# Altium footprint library X2Y_0805.PcbLib: 1 footprints
Each footprint in its own frame and in the unit in brackets; x right, y up, seen from the top. Pads: shape width x height; smd on the part's side, far side on the other; paste and mask are expansions set on the pad; w line width, h text height; cw(c..) or ccw(c..) is an arc to the next point about the centre after c.
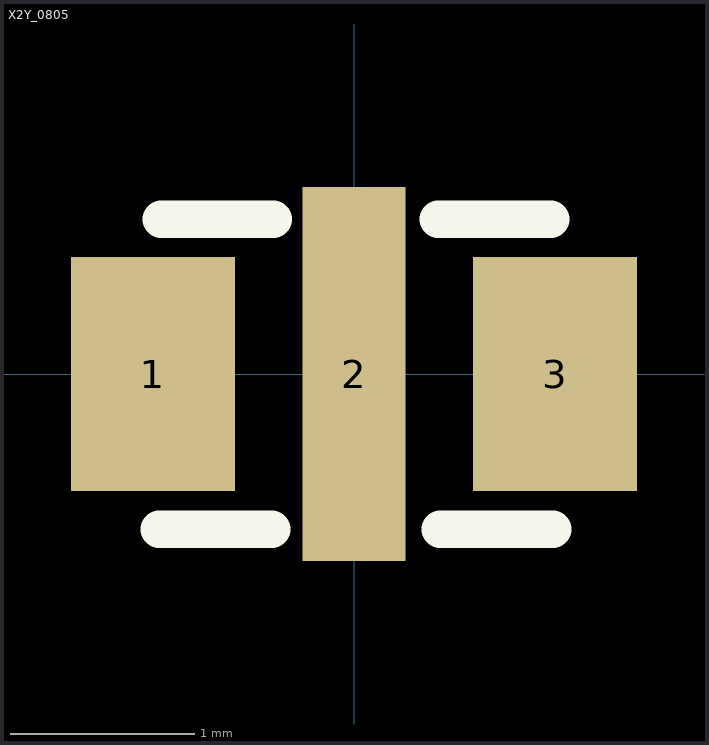
[diagram p0: the footprint, top view; thin cyan lines are the x and y axes]

## X2Y_0805 [mm]
height 0.95
pads (3):
  rect 0.89x1.27 smd: 1(-1.09,0) 3(1.09,0)
  rect 0.56x2.03 smd: 2(0,0)
TopOverlay:
  lines w0.203: -1.056,-0.841 -0.447,-0.841 ; -1.046,0.838 -0.436,0.838 ; 0.457,0.838 1.067,0.838 ; 0.468,-0.841 1.077,-0.841
3D body: height 0.78, standoff 0, extent -0.989,-0.628 1.011,0.622